# EAGLE library part LTC6910-TSOT-23 (library jonsowman)
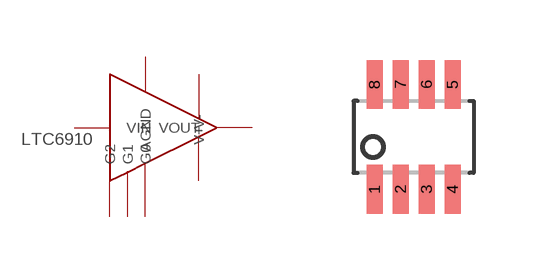
[diagram p2: symbol with the pads of SGA-TSOT-23; footprint SGA-TSOT-23]

Designator prefix -

## LTC6910-TSOT-23  [SGA-TSOT-23]
1  VOUT
2  AGND
3  VIN
4  V-
5  G0
6  G1
7  G2
8  V+

## Footprint SGA-TSOT-23 (pad centres in mm)
smd 0.4 x 1.22: 1 -0.975,-1.31; 2 -0.325,-1.31; 3 0.325,-1.31; 4 0.975,-1.31; 5 0.975,1.31; 6 0.325,1.31; 7 -0.325,1.31; 8 -0.975,1.31